# Altium footprint library Con CompactPCI.PcbLib: 33 footprints (part 3 of 3)
Each footprint in its own frame and in the unit in brackets; x right, y up, seen from the top. Pads: shape width x height; smd on the part's side, far side on the other; paste and mask are expansions set on the pad; w line width, h text height; cw(c..) or ccw(c..) is an arc to the next point about the centre after c.
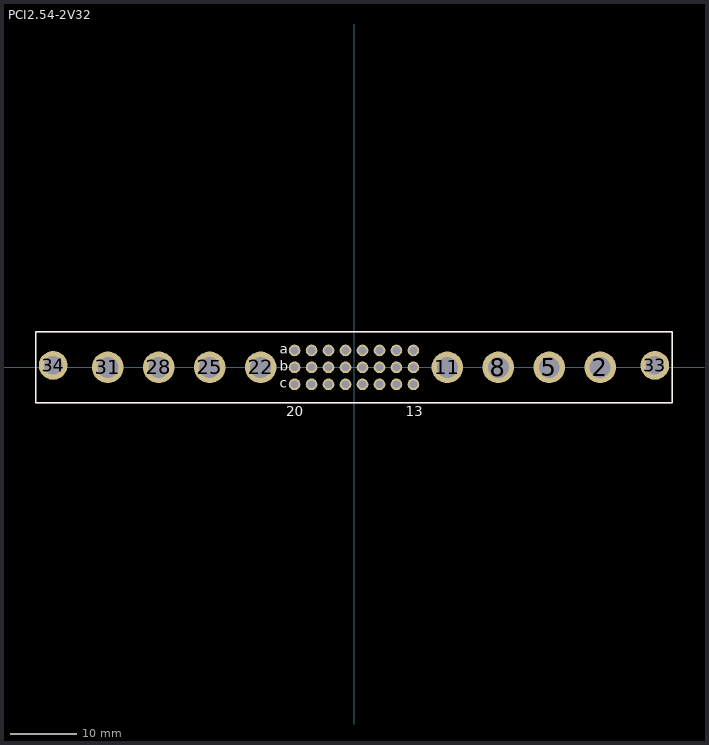
[diagram p2: the footprint, top view; thin cyan lines are the x and y axes]

## PCI2.54-2V32 [mm] "Connector; CompactPCI; 24 Position; Vertical"
height 14.83
pads (34):
  round 4.73 hole 3.13: 2(36.83,0) 5(29.21,0) 8(21.59,0) 11(13.97,0) 22(-13.97,0) 25(-21.59,0) 28(-29.21,0) 31(-36.83,0)
  round 4.3 hole 2.79: 33(45.01,0.3) 34(-45.01,0.3)
  round 1.75 hole 1.15: A13(8.89,2.54) A14(6.35,2.54) A15(3.81,2.54) A16(1.27,2.54) A17(-1.27,2.54) A18(-3.81,2.54) A19(-6.35,2.54) A20(-8.89,2.54) B13(8.89,0) B14(6.35,0) B15(3.81,0) B16(1.27,0) B17(-1.27,0) B18(-3.81,0) B19(-6.35,0) B20(-8.89,0) C13(8.89,-2.54) C14(6.35,-2.54) C15(3.81,-2.54) C16(1.27,-2.54) C17(-1.27,-2.54) C18(-3.81,-2.54) C19(-6.35,-2.54) C20(-8.89,-2.54)
Top Overlay:
  lines w0.2: -47.6,-5.3 47.6,-5.3 47.6,5.3 -47.6,5.3 -47.6,-5.3
  text "a" at -11.14,2.04 h1.5
  text "b" at -11.14,-0.5 h1.5
  text "c" at -11.14,-3.04 h1.5
  text "13" at 7.765,-7.275 h1.5
  text "20" at -10.14,-7.275 h1.5
Mechanical 13:
  lines w0.1: -47.6,-5.3 -47.6,5.3 47.6,5.3 47.6,-5.3 -47.6,-5.3
3D body: height 14.83, standoff 0, extent -47.6,-5.3 47.6,5.3